# EAGLE library part CC3200MOD (library CC3200MODBRD)
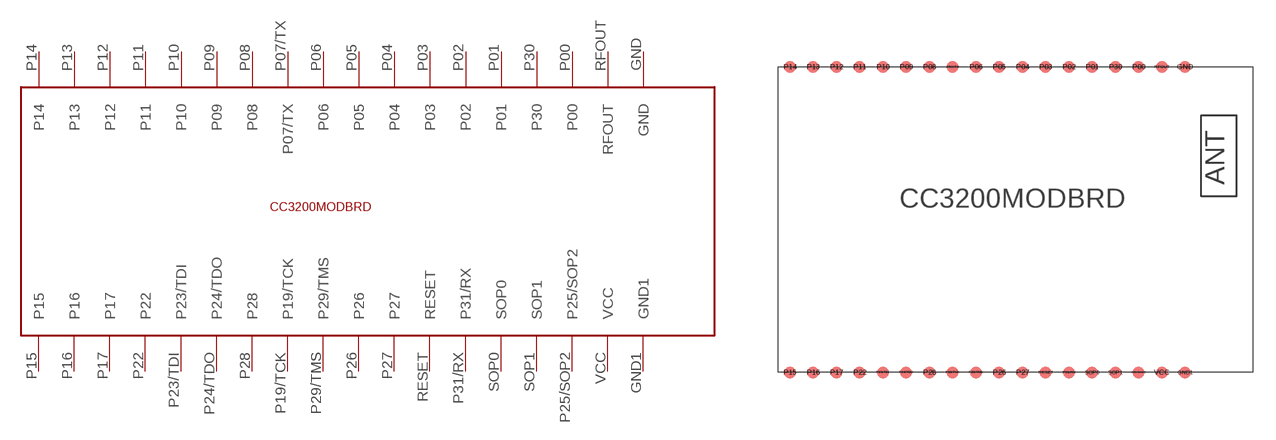
[diagram p0: symbol with the pads of CC3200MOD; footprint CC3200MOD]

Designator prefix -

## CC3200MOD  [CC3200MOD]
GND  GND
GND1  GND1
P00  P00
P01  P01
P02  P02
P03  P03
P04  P04
P05  P05
P06  P06
P07/TX  P07/TX
P08  P08
P09  P09
P10  P10
P11  P11
P12  P12
P13  P13
P14  P14
P15  P15
P16  P16
P17  P17
P19/TCK  P19/TCK
P22  P22
P23/TDI  P23/TDI
P24/TDO  P24/TDO
P25/SOP2  P25/SOP2
P26  P26
P27  P27
P28  P28
P29/TMS  P29/TMS
P30  P30
P31/RX  P31/RX
RESET  RESET
RFOUT  RFOUT
SOP0  SOP0
SOP1  SOP1
VCC  VCC

## Footprint CC3200MOD (pad centres in mm)
smd 0.8 x 0.8: GND 11.09,10; GND1 11.09,-10; P00 8.05,10; P01 5.01,10; P02 3.49,10; P03 1.97,10; P04 0.45,10; P05 -1.07,10; P06 -2.59,10; P07/TX -4.11,10; P08 -5.63,10; P09 -7.15,10; P10 -8.67,10; P11 -10.19,10; P12 -11.71,10; P13 -13.23,10; P14 -14.75,10; P15 -14.75,-10; P16 -13.23,-10; P17 -11.71,-10; P19/TCK -4.11,-10; P22 -10.19,-10; P23/TDI -8.67,-10; P24/TDO -7.15,-10; P25/SOP2 8.05,-10; P26 -1.07,-10; P27 0.45,-10; P28 -5.63,-10; P29/TMS -2.59,-10; P30 6.53,10; P31/RX 3.49,-10; RESET 1.97,-10; RFOUT 9.57,10; SOP0 5.01,-10; SOP1 6.53,-10; VCC 9.57,-10